# EAGLE library part RM-12 (library resistor-sil)
Divider 7 Murata M-Type
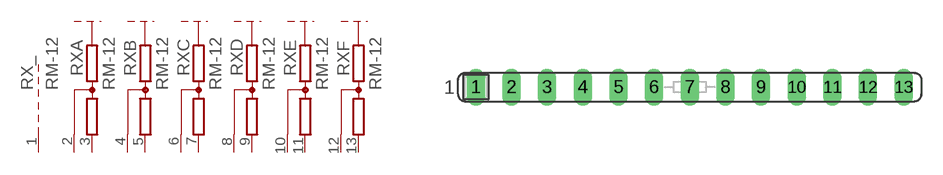
[diagram p47: symbol with the pads of SIL13; footprint SIL13]

Designator prefix RX; gates A=SIL-M B=SIL-M C=SIL-M D=SIL-M E=SIL-M F=SIL-M _=R-P

## RM-12 (OC_FARNELL: unknown; OC_NEWARK: unknown)  [SIL13]
1  _:2  pas
2  A:M1  pas
3  A:M2  pas
4  B:M1  pas
5  B:M2  pas
6  C:M1  pas
7  C:M2  pas
8  D:M1  pas
9  D:M2  pas
10  E:M1  pas
11  E:M2  pas
12  F:M1  pas
13  F:M2  pas

## Footprint SIL13 (pad centres in mm)
Single In Line
drill 0.813 long: 1 -15.24,0; 2 -12.7,0; 3 -10.16,0; 4 -7.62,0; 5 -5.08,0; 6 -2.54,0; 7 0,0; 8 2.54,0; 9 5.08,0; 10 7.62,0; 11 10.16,0; 12 12.7,0; 13 15.24,0